# Altium footprint library 691 221 320 0xx.PcbLib: 6 footprints
Each footprint in its own frame and in the unit in brackets; x right, y up, seen from the top. Pads: shape width x height; smd on the part's side, far side on the other; paste and mask are expansions set on the pad; w line width, h text height; cw(c..) or ccw(c..) is an arc to the next point about the centre after c.
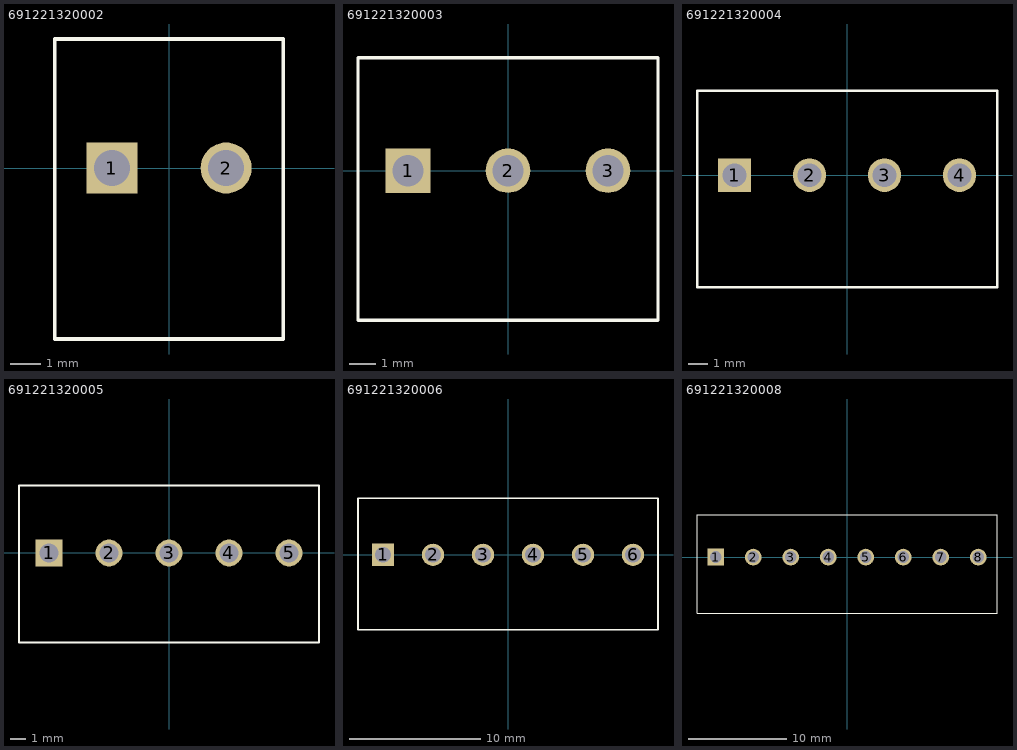
[diagram p0: the footprints below, top view; thin cyan lines are the x and y axes]

## 691221320002 [mm] "3,81mm - modular - green - 55° wire entry - Cage clamp - 02p"
height 9.5
pads (2):
  rect 1.7x1.7 hole 1.2: 1(-1.905,0)
  round 1.7 hole 1.2: 2(1.905,0)
Top Overlay:
  lines w0.127: -3.81,-5.7 -3.81,4.3 3.81,4.3 3.81,-5.7 -3.81,-5.7
3D body: height 9.51, standoff -3.49, extent -3.81,-5.7 3.81,4.3

## 691221320003 [mm] "3,81mm - modular - green - 55° wire entry - Cage clamp - 03p"
height 9.5
pads (3):
  rect 1.7x1.7 hole 1.2: 1(-3.81,0)
  round 1.7 hole 1.2: 2(0,0) 3(3.81,0)
Top Overlay:
  lines w0.127: -5.715,-5.7 5.715,-5.7 5.715,4.3 -5.715,4.3 -5.715,-5.7
3D body: height 9.51, standoff -3.49, extent -5.715,-5.7 5.715,4.3

## 691221320004 [mm] "3,81mm - modular - green - 55° wire entry - Cage clamp - 04p"
height 9.5
pads (4):
  rect 1.7x1.7 hole 1.2: 1(-5.715,0)
  round 1.7 hole 1.2: 2(-1.905,0) 3(1.905,0) 4(5.715,0)
Top Overlay:
  lines w0.127: -7.62,-5.7 7.62,-5.7 7.62,4.3 -7.62,4.3 -7.62,-5.7
3D body: height 9.51, standoff -3.49, extent -7.62,-5.7 7.62,4.3

## 691221320005 [mm] "3,81mm - modular - green - 55° wire entry - Cage clamp - 05p"
height 9.5
pads (5):
  rect 1.7x1.7 hole 1.2: 1(-7.62,0)
  round 1.7 hole 1.2: 2(-3.81,0) 3(0,0) 4(3.81,0) 5(7.62,0)
Top Overlay:
  lines w0.127: -9.525,-5.7 -9.525,4.3 9.525,4.3 9.525,-5.7 -9.525,-5.7
3D body: height 9.51, standoff -3.49, extent -9.525,-5.7 9.525,4.3

## 691221320006 [mm] "3,81mm - modular - green - 55° wire entry - Cage clamp - 06p"
height 9.5
pads (6):
  rect 1.7x1.7 hole 1.2: 1(-9.525,0)
  round 1.7 hole 1.2: 2(-5.715,0) 3(-1.905,0) 4(1.905,0) 5(5.715,0) 6(9.525,0)
Top Overlay:
  lines w0.127: -11.43,-5.7 11.43,-5.7 11.43,4.3 -11.43,4.3 -11.43,-5.7
3D body: height 9.51, standoff -3.49, extent -11.43,-5.7 11.43,4.3

## 691221320008 [mm] "3,81mm - modular - green - 55° wire entry - Cage clamp - 08p"
height 9.5
pads (8):
  rect 1.7x1.7 hole 1.2: 1(-13.335,0)
  round 1.7 hole 1.2: 2(-9.525,0) 3(-5.715,0) 4(-1.905,0) 5(1.905,0) 6(5.715,0) 7(9.525,0) 8(13.335,0)
Top Overlay:
  lines w0.127: -15.24,-5.7 -15.24,4.3 15.24,4.3 15.24,-5.7 -15.24,-5.7
3D body: height 9.51, standoff -3.49, extent -15.24,-5.7 15.24,4.3